# Altium schematic symbol library FDFS6N548.SCHLIB: 1 symbol
Pins are listed as number, name and electrical type; pins without a type are passive.

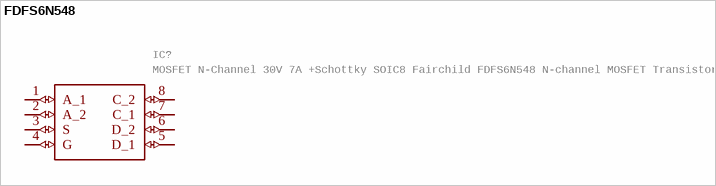
[diagram p0: symbol FDFS6N548]

## FDFS6N548
designator IC?, comment MOSFET N-Channel 30V 7A +Schottky SOIC8 Fairchild FDFS6N548 N-channel MOSFET Transistor, 7 A, 30 V, 8-Pin SO   Source:  Datasheet
Manufacturer_Name: ON Semiconductor; GateName_1: G$1; SymbolName_1: FDFS6N548; LibraryName: FDFS6N548; DeviceSetName: FDFS6N548; Package: SOIC127P600X175-8N; Manufacturer_Part_Number: FDFS6N548; Mouser_Part_Number: 512-FDFS6N548; Mouser_Price-Stock: https://www.mouser.co.uk/ProductDetail/ON-Semiconductor-Fairchild/FDFS6N548?qs=b4rH2LiNnwlqgZ%2FZIEc2ow%3D%3D; Arrow_Part_Number: FDFS6N548; Arrow_Price-Stock: https://www.arrow.com/en/products/fdfs6n548/on-semiconductor; Description: MOSFET N-Channel 30V 7A +Schottky SOIC8 Fairchild FDFS6N548 N-channel MOSFET Transistor, 7 A, 30 V, 8-Pin SO; Height: 1.75mm
footprint SOIC127P600X175-8N
pins: 1 A_1 (io), 2 A_2 (io), 3 S (io), 4 G (io), 5 D_1 (io), 6 D_2 (io), 7 C_1 (io), 8 C_2 (io)